# Altium schematic symbol library Lora Board.SchLib: 1 symbol
Pins are listed as number, name and electrical type; pins without a type are passive.

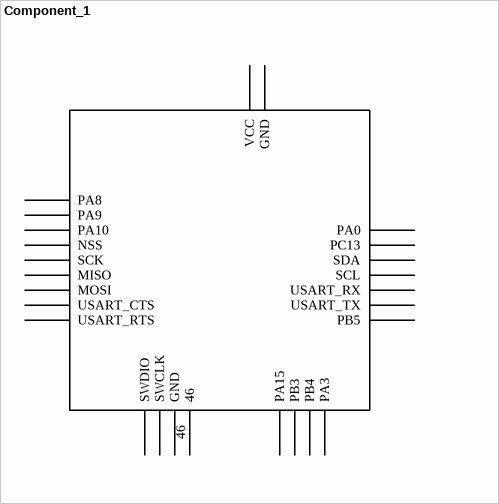
[diagram p0: symbol Component_1]

## Component_1
designator *
footprint Lora_Board (Parvizi Lora Board)
pins: 46 (power), GND (power), GND (power), MISO (power), MOSI (power), NSS (power), PA0 (power), PA3 (power), PA8 (power), PA9 (power), PA10 (power), PA15 (power), PB3 (power), PB4 (power), PB5 (power), PC13 (power), SCK (power), SCL (power), SDA (power), SWCLK (power), SWDIO (power), USART_CTS (power), USART_RTS (power), USART_RX (power), USART_TX (power), VCC (power)